# EAGLE library part HARWIN_2X20_PIN (library Harwin_2x20)
Harwin 2x20 40 pin straight header.
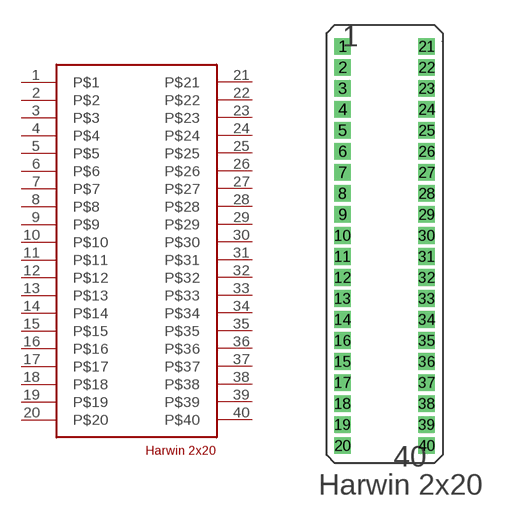
[diagram p0: symbol with the pads of HARWIN_2X20; footprint HARWIN_2X20]

Designator prefix -

## HARWIN_2X20_PIN  [HARWIN_2X20]
1  P$1
2  P$2
3  P$3
4  P$4
5  P$5
6  P$6
7  P$7
8  P$8
9  P$9
10  P$10
11  P$11
12  P$12
13  P$13
14  P$14
15  P$15
16  P$16
17  P$17
18  P$18
19  P$19
20  P$20
21  P$21
22  P$22
23  P$23
24  P$24
25  P$25
26  P$26
27  P$27
28  P$28
29  P$29
30  P$30
31  P$31
32  P$32
33  P$33
34  P$34
35  P$35
36  P$36
37  P$37
38  P$38
39  P$39
40  P$40

## Footprint HARWIN_2X20 (pad centres in mm)
Harwin 2x20 straight pin header.
drill 0.5 square: 1 -2.54,12.7; 2 -2.54,11.43; 3 -2.54,10.16; 4 -2.54,8.89; 5 -2.54,7.62; 6 -2.54,6.35; 7 -2.54,5.08; 8 -2.54,3.81; 9 -2.54,2.54; 10 -2.54,1.27; 11 -2.54,0; 12 -2.54,-1.27; 13 -2.54,-2.54; 14 -2.54,-3.81; 15 -2.54,-6.35; 16 -2.54,-5.08; 17 -2.54,-7.62; 18 -2.54,-8.89; 19 -2.54,-10.16; 20 -2.54,-11.43; 21 2.54,12.7; 22 2.54,11.43; 23 2.54,10.16; 24 2.54,8.89; 25 2.54,7.62; 26 2.54,6.35; 27 2.54,5.08; 28 2.54,3.81; 29 2.54,2.54; 30 2.54,1.27; 31 2.54,0; 32 2.54,-1.27; 33 2.54,-2.54; 34 2.54,-3.81; 35 2.54,-5.08; 36 2.54,-6.35; 37 2.54,-7.62; 38 2.54,-8.89; 39 2.54,-10.16; 40 2.54,-11.43